# EAGLE library part MKRZERO (library arduino)
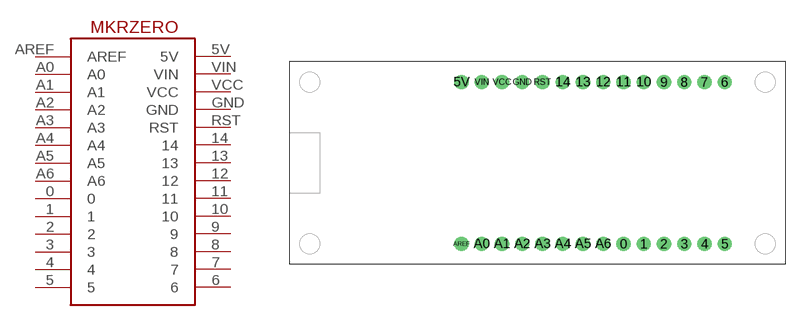
[diagram p0: symbol with the pads of ZERO; footprint ZERO]

Designator prefix -

## MKRZERO  [ZERO]
0  0
1  1
2  2
3  3
4  4
5  5
5V  5V
6  6
7  7
8  8
9  9
10  10
11  11
12  12
13  13
14  14
A0  A0
A1  A1
A2  A2
A3  A3
A4  A4
A5  A5
A6  A6
AREF  AREF
GND  GND
RST  RST
VCC  VCC
VIN  VIN

## Footprint ZERO (pad centres in mm)
drill 0.8 pad 1.778: 0 41.91,2.54; 1 44.45,2.54; 2 46.99,2.54; 3 49.53,2.54; 4 52.07,2.54; 5 54.61,2.54; 5V 21.59,22.86; 6 54.61,22.86; 7 52.07,22.86; 8 49.53,22.86; 9 46.99,22.86; 10 44.45,22.86; 11 41.91,22.86; 12 39.37,22.86; 13 36.83,22.86; 14 34.29,22.86; A0 24.13,2.54; A1 26.67,2.54; A2 29.21,2.54; A3 31.75,2.54; A4 34.29,2.54; A5 36.83,2.54; A6 39.37,2.54; AREF 21.59,2.54; GND 29.21,22.86; RST 31.75,22.86; VCC 26.67,22.86; VIN 24.13,22.86